# EAGLE library part PCM2906CDBR (library ecad)
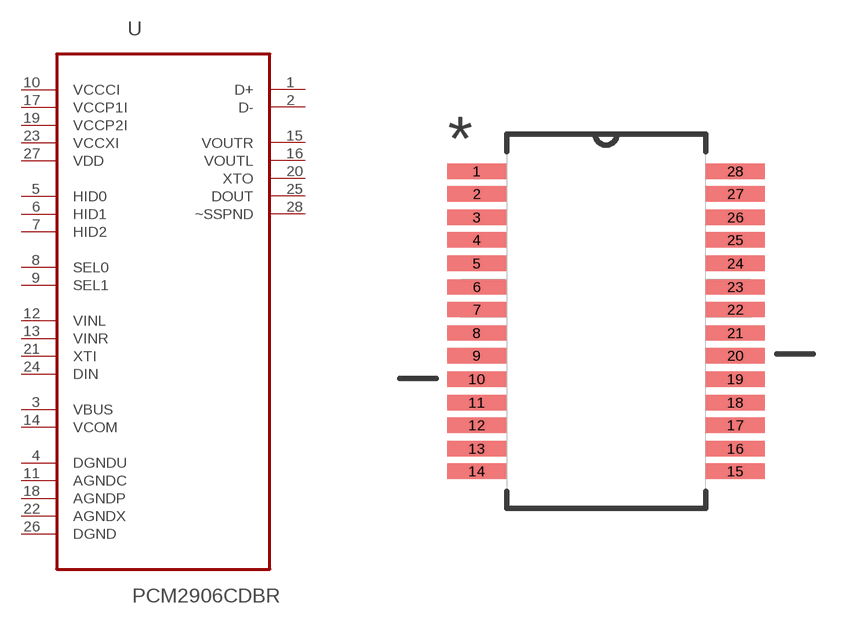
[diagram p0: symbol with the pads of SOP65P780X200-28N; footprint SOP65P780X200-28N]

Designator prefix U

## PCM2906CDBR (MPN: PCM2906BDBR; OC_FARNELL: -; OC_NEWARK: 51P6654; PACKAGE: SSOP-28; SUPPLIER: Texas Instruments)  [SOP65P780X200-28N]
1  D+
2  D-
3  VBUS  pas
4  DGNDU  pas
5  HID0  in
6  HID1  in
7  HID2  in
8  SEL0  in
9  SEL1  in
10  VCCCI  pwr
11  AGNDC  pas
12  VINL  in
13  VINR  in
14  VCOM  pas
15  VOUTR  out
16  VOUTL  out
17  VCCP1I  pwr
18  AGNDP  pas
19  VCCP2I  pwr
20  XTO  out
21  XTI  in
22  AGNDX  pas
23  VCCXI  pwr
24  DIN  in
25  DOUT  out
26  DGND  pas
27  VDD  pwr
28  ~SSPND  out

## Footprint SOP65P780X200-28N (pad centres in mm)
smd 1.651 x 0.432: 1 -3.632,4.216; 2 -3.632,3.581; 3 -3.632,2.921; 4 -3.632,2.286; 5 -3.632,1.626; 6 -3.632,0.965; 7 -3.632,0.33; 8 -3.632,-0.33; 9 -3.632,-0.965; 10 -3.632,-1.626; 11 -3.632,-2.286; 12 -3.632,-2.921; 13 -3.632,-3.581; 14 -3.632,-4.216; 15 3.632,-4.216; 16 3.632,-3.581; 17 3.632,-2.921; 18 3.632,-2.286; 19 3.632,-1.626; 20 3.632,-0.965; 21 3.632,-0.33; 22 3.632,0.33; 23 3.632,0.965; 24 3.632,1.626; 25 3.632,2.286; 26 3.632,2.921; 27 3.632,3.581; 28 3.632,4.216